# Altium schematic symbol library 528-45AB.SchLib: 1 symbol
Pins are listed as number, name and electrical type; pins without a type are passive.

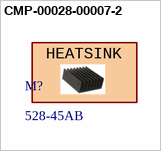
[diagram p0: symbol CMP-00028-00007-2]

## CMP-00028-00007-2
designator M?, comment 528-45AB  (mechanical)
528 Series 61 x 57.9 mm 2.1 °C/W Vertical Aluminum Black Anodized Heatsink
footprint 528-45AB-Footprint-1
text: HEATSINK